# Altium footprint library InterfaceConnectors.PcbLib: 1 footprints
Each footprint in its own frame and in the unit in brackets; x right, y up, seen from the top. Pads: shape width x height; smd on the part's side, far side on the other; paste and mask are expansions set on the pad; w line width, h text height; cw(c..) or ccw(c..) is an arc to the next point about the centre after c.
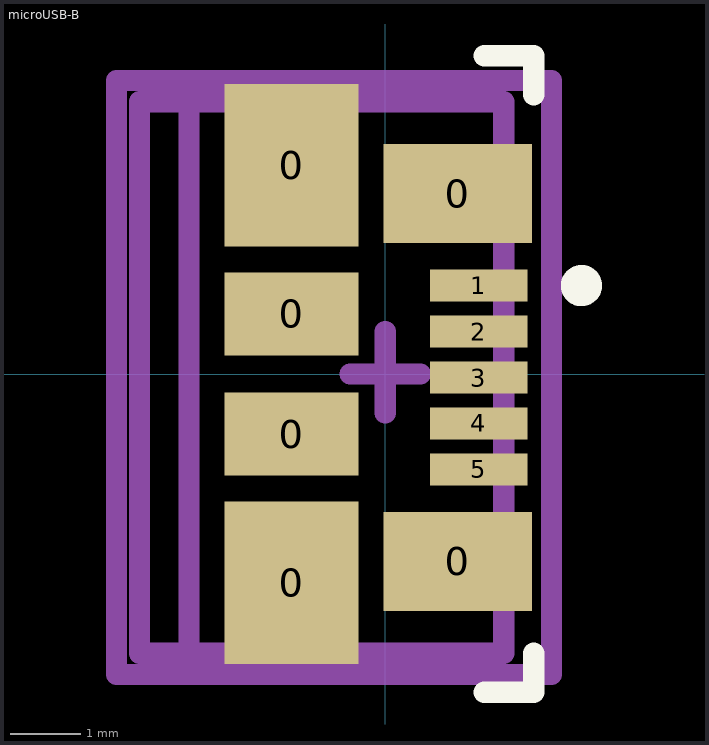
[diagram p0: the footprint, top view; thin cyan lines are the x and y axes]

## microUSB-B [mm] "microUSB, type-B"
pads (11):
  rect 1.9x2.3 smd: 0(-1.325,-2.95) 0(-1.325,2.95)
  rect 1.9x1.175 smd: 0(-1.325,-0.85) 0(-1.325,0.85)
  rect 2.1x1.4 smd: 0(1.025,-2.65) 0(1.025,2.55)
  rect 1.38x0.45 smd: 1(1.325,1.25) 2(1.325,0.6) 3(1.325,-0.05) 4(1.325,-0.7) 5(1.325,-1.35)
Top Overlay:
  circle w0.3: c2.775,1.25 r0.141
  lines w0.3: 1.4,-4.5 2.1,-4.5 2.1,-3.95 ; 1.4,4.5 2.1,4.5 2.1,3.95
Mechanical 13:
  lines w0.3: -2.775,-3.95 -2.775,3.85 ; -3.475,-3.95 1.675,-3.95 1.675,-3.85 1.675,3.85 -3.475,3.85 -3.475,-3.95
Mechanical 15:
  lines w0.3: -0.5,0 0.5,0 ; 0,-0.55 0,0.6 ; -3.8,-4.25 2.35,-4.25 2.35,4.15 -3.8,4.15 -3.8,-4.25
3D body "473460001.stp": height 2.77, standoff -0.17, extent -3.625,-4.04 1.805,3.94